# EAGLE library part CH330 (library CH330)
CH330 Super small Serial to USB chip
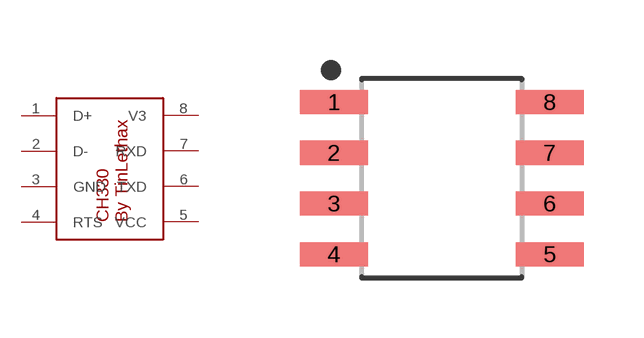
[diagram p0: symbol with the pads of SOIC127P600X150-8N; footprint SOIC127P600X150-8N]

Designator prefix -

## CH330 (DESCRIPTION: CH330 Super small Serial to USB chip; PACKAGE: SOP8; PARTNO: CH330)  [SOIC127P600X150-8N]
1  D+
2  D-
3  GND
4  RTS
5  VCC
6  TXD
7  RXD
8  V3

## Footprint SOIC127P600X150-8N (pad centres in mm)
8-SOIC, 1.27 mm pitch, 6.00 mm span, 4.95 X 3.95 X 1.50 mm body 8-pin SOIC package with 1.27 mm pitch, 6.00 mm span with body size 4.95 X 3.95 X 1.50 mm
smd 1.708 x 0.602: 1 -2.7,1.905; 2 -2.7,0.635; 3 -2.7,-0.635; 4 -2.7,-1.905; 5 2.7,-1.905; 6 2.7,-0.635; 7 2.7,0.635; 8 2.7,1.905